# EAGLE library part NUCLEUM (library nucleum)
Nucleum sensorboard prototyping module.
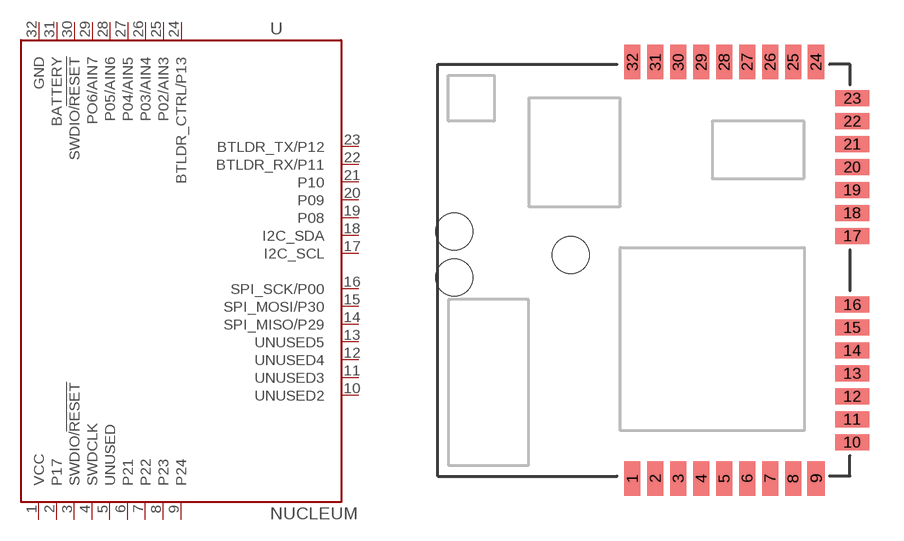
[diagram p1: symbol with the pads of NUCLEUM; footprint NUCLEUM]

Designator prefix U

## NUCLEUM  [NUCLEUM]
1  VCC
2  P17
3  SWDIO/!RESET
4  SWDCLK
5  UNUSED
6  P21
7  P22
8  P23
9  P24
10  UNUSED2
11  UNUSED3
12  UNUSED4
13  UNUSED5
14  SPI_MISO/P29
15  SPI_MOSI/P30
16  SPI_SCK/P00
17  I2C_SCL
18  I2C_SDA
19  P08
20  P09
21  P10
22  BTLDR_RX/P11
23  BTLDR_TX/P12
24  BTLDR_CTRL/P13
25  P02/AIN3
26  P03/AIN4
27  P04/AIN5
28  P05/AIN6
29  PO6/AIN7
30  SWDIO/!RESET
31  BATTERY
32  GND

## Footprint NUCLEUM (pad centres in mm)
Nucleum Package with through holes for the programmer
smd 0.7 x 1.5: 1 8.481,-0.109; 2 9.481,-0.109; 3 10.481,-0.109; 4 11.481,-0.109; 5 12.481,-0.109; 6 13.481,-0.109; 7 14.481,-0.109; 8 15.481,-0.109; 24 16.481,18.049; 25 15.481,18.049; 26 14.481,18.049; 27 13.481,18.049; 28 12.481,18.049; 29 11.481,18.049; 30 10.481,18.049; 31 9.481,18.049; 32 8.481,18.049
smd 0.754 x 1.5: 9 16.481,-0.109
smd 1.5 x 0.7: 10 18.06,1.47; 11 18.06,2.47; 12 18.06,3.47; 13 18.06,4.47; 14 18.06,5.47; 15 18.06,6.47; 16 18.06,7.47; 17 18.06,10.47; 18 18.06,11.47; 19 18.06,12.47; 20 18.06,13.47; 21 18.06,14.47; 22 18.06,15.47; 23 18.06,16.47
hole 1.6 at 0.72,8.66
hole 1.6 at 0.72,10.66
hole 1.6 at 5.8,9.64